# EAGLE library part BQ29209 (library custom)
Li-Ion Voltage Protection IC 2-Cell Do Not Use
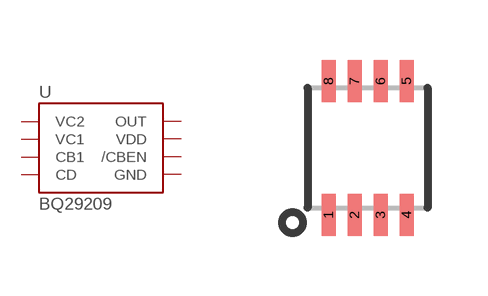
[diagram p55: symbol with the pads of 8-SON; footprint 8-SON]

Designator prefix U

## BQ29209  [8-SON]
1  VC2
2  VC1
3  CB1
4  CD
5  GND
6  /CBEN
7  VDD
8  OUT

## Footprint 8-SON (pad centres in mm)
smd 0.35 x 1.05: 1 -0.975,-1.675; 2 -0.325,-1.675; 3 0.325,-1.675; 4 0.975,-1.675; 5 0.975,1.675; 6 0.325,1.675; 7 -0.325,1.675; 8 -0.975,1.675